# Altium schematic symbol library AD8211_YRJZ.Schlib: 1 symbol
Pins are listed as number, name and electrical type; pins without a type are passive.

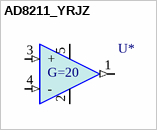
[diagram p0: symbol AD8211_YRJZ]

## AD8211_YRJZ
designator U*
High Voltage Current Shunt Monitor
footprint SOT23-5
pins: 1 Out (out) "OUT", 2 -U (power) "GND", 3 + (in) "+ IN", 4 - (in) "- IN", 5 +U (power) "Ucc"
text: G=20